# Altium schematic symbol library self.SchLib: 105 symbols (part 2 of 2)
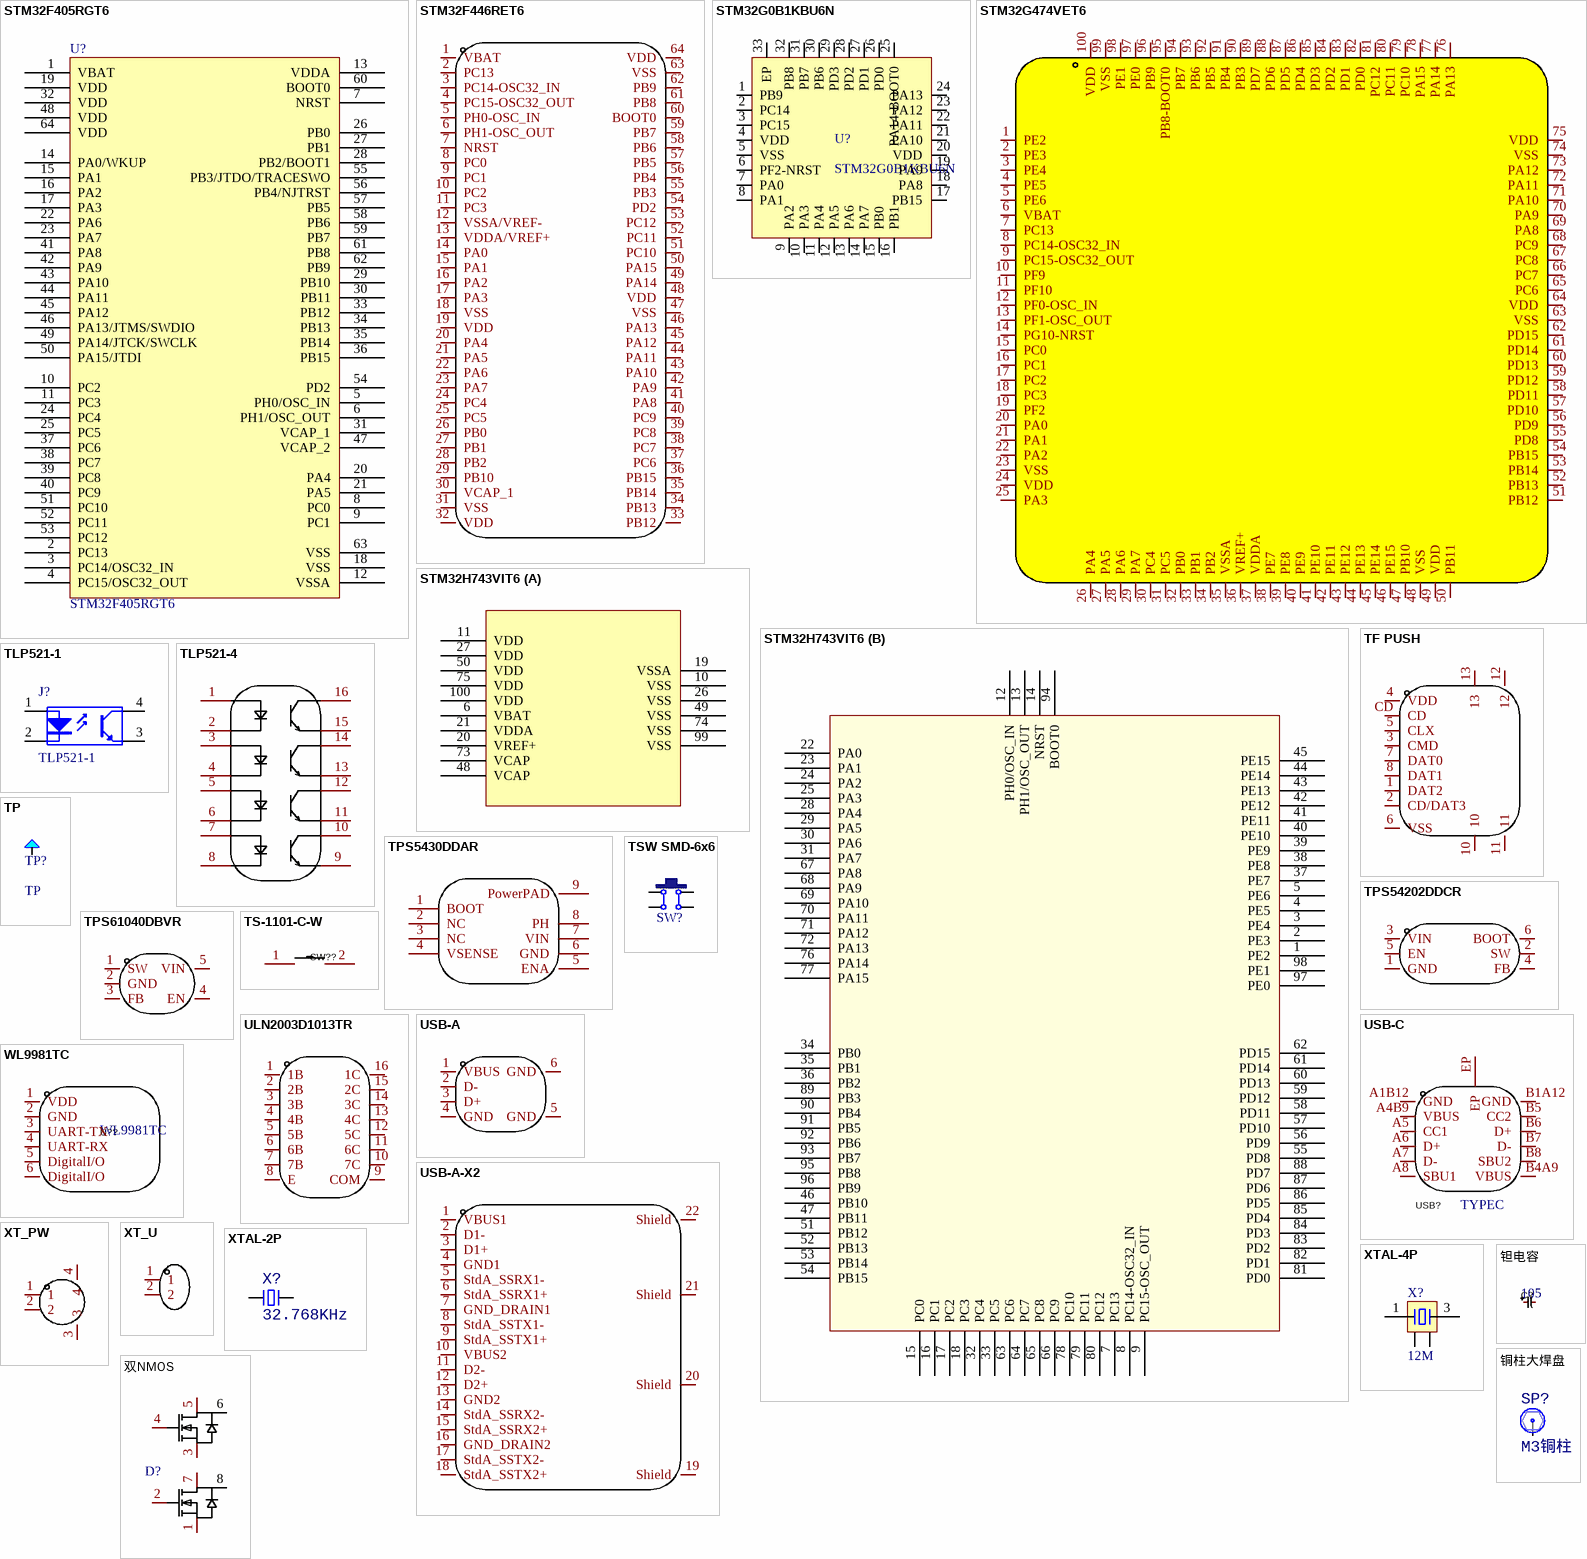
[diagram p3: symbols STM32F405RGT6 to 铜柱大焊盘]

## 双NMOS
designator D?, comment NCEP023N10LL  (value not drawn)
self-draw
footprint NCEP023N10LL (PG-HSOF-8-1_L10.4-W9.9-P1.2-LS11.7-TL)
pins: 1 S2, 2 G2, 3 S1, 4 G1, 5 D1, 6 D1, 7 D2, 8 D2

## 钽电容
designator C?, comment 105
298D105X0025M2T; Manufacturer: VISHAY(威世); Add into BOM: yes; Value: 1uF; Tolerance: ±20%; Rated Voltage: 25V; Equivalent Series Resistance(ESR): 10Ω; Symbol: 298D105X0025M2T; Device: 298D105X0025M2T; LCSC Part Name: 1uF ±20% 25V; Supplier Part: C1952840; Manufacturer Part: 298D105X0025M2T; Supplier Footprint: 0603; JLCPCB Part Class: Extended Part; Datasheet: https://atta.szlcsc.com/upload/public/pdf/source/20210429/54CF6DBD229C7D9A67DF3F641772A7B5.pdf; Supplier: LCSC; Convert to PCB: yes; Leakage Current(DCL): -; Ripple Current: -; Operating Temperature: -55℃~+125℃
footprint 298D105X0025M2T (CAP-SMD_L1.6-W0.8-1)
pins: 1, 2

## 铜柱大焊盘
designator SP?, comment M3铜柱
铜柱; BOM名称: 铜柱
footprint M3x4_N (M3铜柱，长：4mm)
footprint M3x5_N (M3铜柱，长：5mm)
footprint M3x6_N (M3铜柱，长：6mm)
footprint M3x7_N (M3铜柱，长：7mm)
footprint M3x8_N (M3铜柱，长：8mm)
footprint M3x9_N (M3铜柱，长：9mm)
footprint M3x10_N (M3铜柱，长：10mm)
footprint M3x11_N (M3铜柱，长：11mm)
footprint M3x12_N (M3铜柱，长：12mm)
footprint M3x13_N (M3铜柱，长：13mm)
footprint M3x14_N (M3铜柱，长：14mm)
footprint M3x15_N (M3铜柱，长：15mm)
footprint M3x16_N (M3铜柱，长：16mm)
footprint M3x17_N (M3铜柱，长：17mm)
footprint M3x18_N (M3铜柱，长：18mm)
footprint M3x20_N (M3铜柱，长：20mm)
footprint M3x21_N (M3铜柱，长：21mm)
footprint M3x22_N (M3铜柱，长：22mm)
footprint M3x23_N (M3铜柱，长：23mm)
footprint M3x24_N (M3铜柱，长：24mm)
footprint M3x25_N (M3铜柱，长：25mm)
footprint M3x26_N (M3铜柱，长：26mm)
footprint M3x27_N (M3铜柱，长：27mm)
footprint M3x28_N (M3铜柱，长：28mm)
footprint M3x30_N (M3铜柱，长：30mm)
footprint M3x32_N (M3铜柱，长：32mm)
footprint M3x35_N (M3铜柱，长：35mm)
footprint M3x40_N (M3铜柱，长：40mm)
footprint M3x45_N (M3铜柱，长：45mm)
footprint M3x50_N (M3铜柱，长：50mm)
footprint M3x55_N (M3铜柱，长：55mm)
footprint M3x60_N (M3铜柱，长：60mm)
footprint M3x65_N (M3铜柱，长：65mm)
pins: 1